# Altium footprint library EnviromentalBoard.PcbLib: 18 footprints (part 1 of 2)
Each footprint in its own frame and in the unit in brackets; x right, y up, seen from the top. Pads: shape width x height; smd on the part's side, far side on the other; paste and mask are expansions set on the pad; w line width, h text height; cw(c..) or ccw(c..) is an arc to the next point about the centre after c.
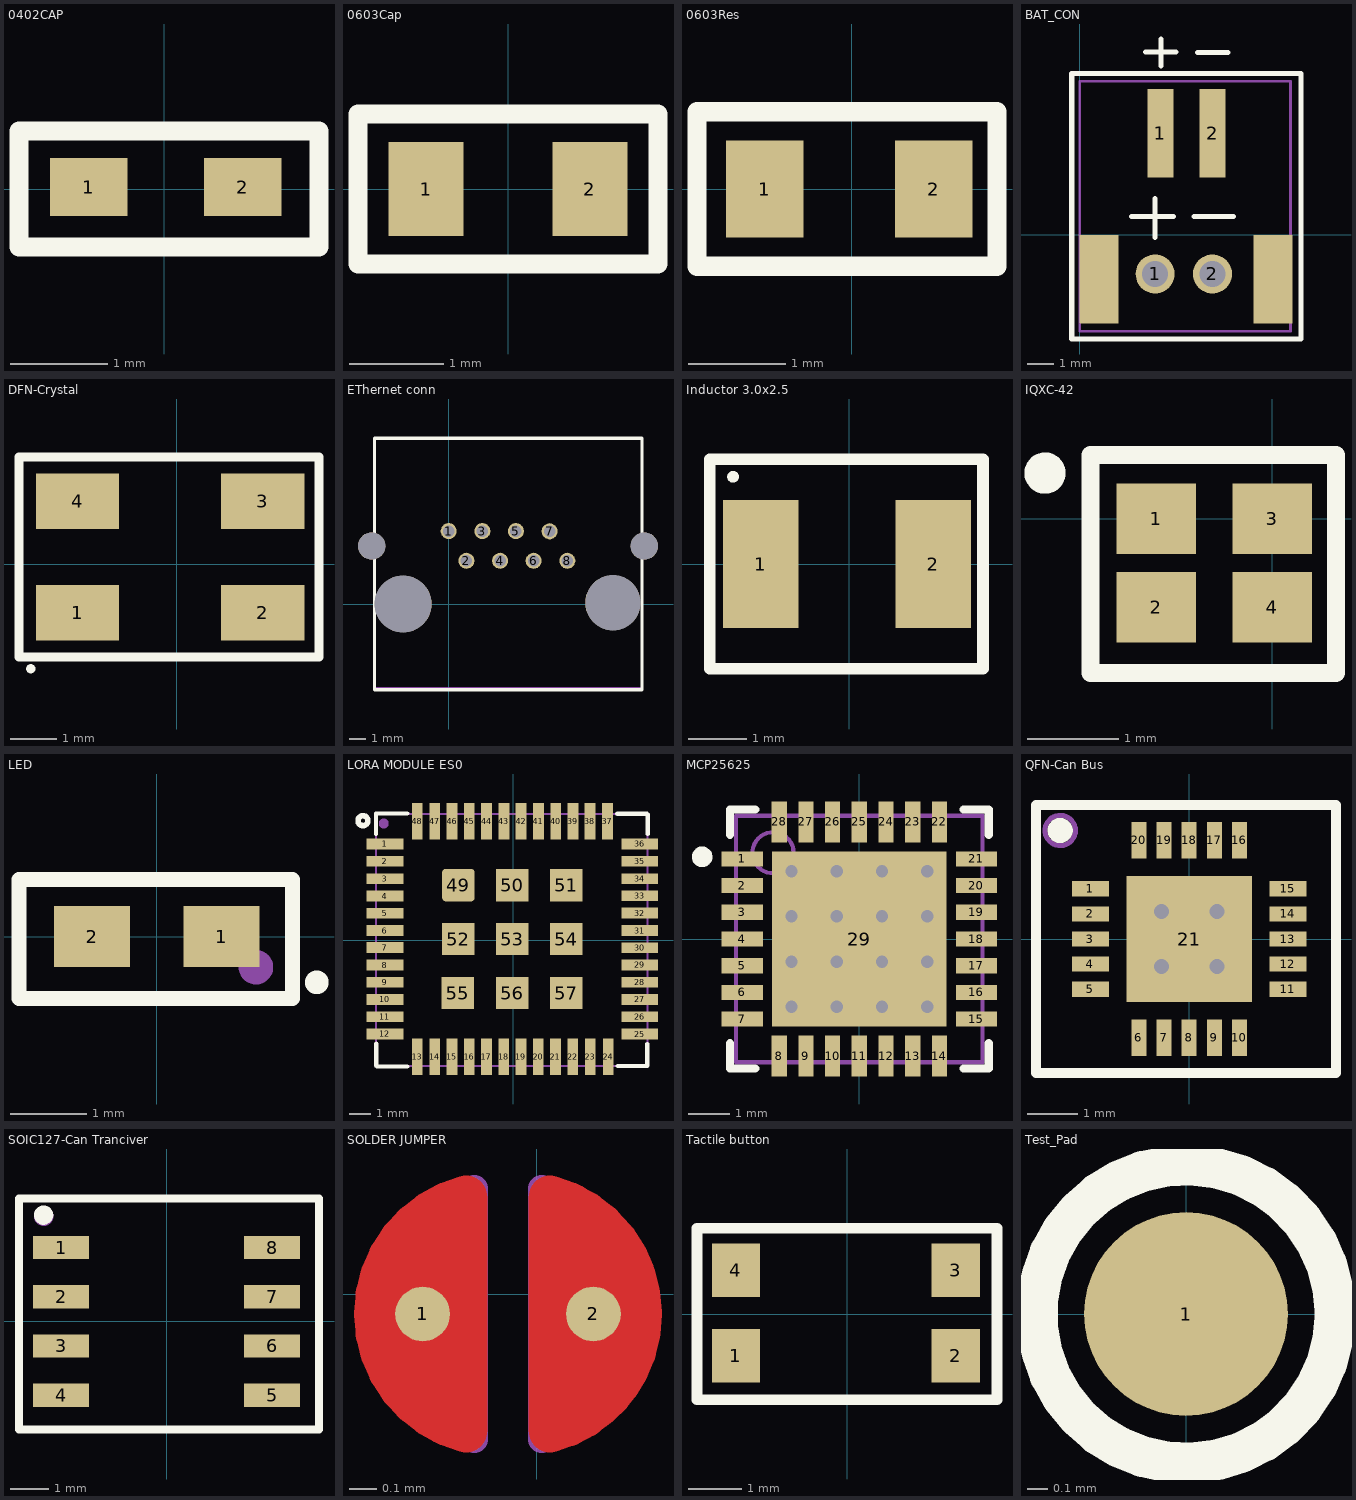
[diagram p0: the footprints below, top view; thin cyan lines are the x and y axes]

## 0402CAP [mm]
pads (2):
  rect 0.8x0.6 smd: 1(-0.78,0.02) 2(0.81,0.02)
Top Overlay:
  lines w0.2: -1.5,-0.6 -1.5,0.6 -0.63,0.6 0.668,0.6 1.6,0.6 1.6,-0.6 -1.5,-0.6
Mechanical 29:
  lines w0.1: -1.5,-0.6 -1.5,0.6 1.6,0.6 1.6,-0.6 -1.5,-0.6
  text "'.Designator'" at -1.3,-0.3 h0.5
3D body: height 1.5, standoff 0, extent -0.281,-0.286 0.319,0.314
3D body: height 1.5, standoff 0, extent 0.319,-0.286 0.569,0.314
3D body: height 1.5, standoff 0, extent -0.531,-0.286 -0.281,0.314

## 0603Cap [mm]
pads (2):
  rect 0.8x1 smd paste+0 mask+0.102: 1(-0.873,0) 2(0.873,0)
Top Overlay:
  lines w0.2: -1.6,-0.8 1.6,-0.8 1.6,0.8 -1.6,0.8 -1.6,-0.8
Mechanical 29:
  lines w0.1: -1.6,-0.8 1.6,-0.8 1.6,0.8 -1.6,0.8 -1.6,-0.8
  text "'.Designator'" at -1.2,-0.4 h1
3D body "User Library-CR1608-0603.step": height 0.45, standoff 0, extent -0.8,-0.4 0.8,0.4

## 0603Res [mm]
pads (2):
  rect 0.8x1 smd paste+0 mask+0.102: 1(-0.899,0) 2(0.848,0)
Top Overlay:
  lines w0.2: -1.6,-0.8 1.5,-0.8 1.5,0.8 -1.6,0.8 -1.6,-0.8
Mechanical 29:
  lines w0.1: -1.6,-0.8 1.5,-0.8 1.5,0.8 -1.6,0.8 -1.6,-0.8
  text "'.Designator'" at -1.3,-0.4 h1
3D body "User Library-CR1608-0603.step": height 0.45, standoff 0, extent -0.825,-0.4 0.775,0.4

## BAT_CON [mm]
pads (6):
  round 1.5 hole 1: 1(2.9,-1.5) 2(5.1,-1.5)
  rect 1x3.4 smd: 1(3.098,3.899) 2(5.108,3.901)
  rect 1.5x3.4 smd: ""(0.75,-1.7) ""(7.421,-1.711)
Top Overlay:
  lines w0.2: 2,0.7 3.6,0.7 ; 2.53,7.02 3.7,7.02 ; 2.9,-0.1 2.9,1.4 ; 3.13,6.48 3.13,7.52 ; 4.4,0.7 5.9,0.7 ; 4.54,7 5.7,7 ; -0.3,-4 -0.3,6.2 8.5,6.2 8.5,-4 -0.3,-4
Bottom Overlay:
  lines w0.2: 2.06,0.67 3.67,0.67 ; 2.9,-0.11 2.9,1.42 ; 4.4,0.7 5.88,0.7
Mechanical 29:
  lines w0.1: 0,-3.7 0,5.9 8.1,5.9 8.1,0 8.1,-3.7 0,-3.7
  text "'.Designator'" at 0.2,0.7 h1

## DFN-Crystal [mm] "DFN, 4-Leads, Body 3.20x5.00mm, Pitch 4.00mm, IPC Medium Density"
height 1.1
pads (4):
  rect 1.8x1.2 smd: 1(-2.14,-1.048) 2(1.86,-1.048) 3(1.86,1.352) 4(-2.14,1.352)
Top Overlay:
  circle w0.1: c-3.15,-2.261 r0.05
  lines w0.2: -3.404,-2.007 3.073,-2.007 3.073,2.311 -3.404,2.311 -3.404,-2.007
Mechanical 29:
  lines w0.1: -3.404,-2.007 3.073,-2.007 3.073,2.311 -3.404,2.311 -3.404,-2.007
  text "'.Designator'" at -2.083,-0.102 h1
3D body "User Library-ABM3B.STEP": height 1.1, standoff 0, extent -2.66,-1.43 2.34,1.77

## EThernet conn [mm]
pads (12):
  round 0.97 hole 0.7: 1(0,4.41) 2(1.07,2.62) 3(2.03,4.41) 4(3.1,2.62) 5(4.06,4.41) 6(5.13,2.62) 7(6.09,4.4) 8(7.16,2.62)
  round 1.65 hole 1.65 unplated: ""(-4.65,3.51) ""(11.81,3.51)
  round 3.43 hole 3.43 unplated: ""(-2.75,0.01)
  round 3.33 hole 3.33 unplated: ""(9.91,0.09)
Top Overlay:
  lines w0.2: -4.48,-5.17 11.13,-5.17 11.67,-5.17 11.67,10.01 -4.48,10.01 -4.48,-5.17
Mechanical 29:
  lines w0.1: -4.49,-5.05 -4.49,10.02 11.61,10.02 11.66,9.97 11.66,-5.05 -4.49,-5.05
  text "'.Designator'" at -1.41,-3.47 h1
3D body "446200001.stp": height 13.21, standoff -2.79, extent -4.325,-5.015 11.56,10.095

## Inductor 3.0x2.5 [mm]
pads (2):
  rect 1.3x2.2 smd: 1(-1.52,0) 2(1.44,0)
Top Overlay:
  circle w0.1: c-2,1.5 r0.05
  lines w0.2: -2.4,-1.8 2.3,-1.8 2.3,1.8 -2.4,1.8 -2.4,-1.8
Mechanical 29:
  lines w0.1: -2.4,-1.8 -2.4,1.8 2.3,1.8 2.3,-1.8 -2.4,-1.8
  text "'.Designator'" at -1.8,-1.3 h1
3D body: height 1.5, standoff 0, extent -1.35,-1.6 -0.82,1.6
3D body: height 1.5, standoff 0, extent 0.82,-1.6 1.35,1.6
3D body: height 1.5, standoff 0, extent -0.82,-1.6 0.82,1.6

## IQXC-42 [mm] "crystall"
pads (4):
  rect 0.875x0.775 smd: 1(-1.275,0) 2(-1.275,-0.975) 3(0,0) 4(0,-0.975)
Top Overlay:
  circle w0.254: c-2.5,0.5 r0.1
  lines w0.2: -2,-1.7 -2,0.7 0.7,0.7 0.7,0.5 0.7,-1.7 -2,-1.7
Mechanical 29:
  lines w0.1: 0.7,0.7 0.7,-1.7 -2,-1.7 -2,0.7 -1.6,0.7 0.4,0.7 0.7,0.7 ; 0.7,0.7 0.7,0.7
  text "'.Designator'" at -1.5,-0.8 h0.7
3D body: height 1, standoff 0, extent -1.7,-1.3 0.4,0.3

## LED [mm]
pads (2):
  rect 1x0.8 smd: 1(0.85,0) 2(-0.85,0)
Top Overlay:
  lines w0.2: -1.81,-0.81 1.78,-0.81 1.78,0.75 -1.81,0.75 -1.81,-0.81
  lines w0.254: 2.128,-0.6 cw(c2.1,-0.6) 2.128,-0.597
Mechanical 29:
  circle w0.254: c1.3,-0.4 r0.1
  lines w0.1: -1.8,-0.8 -1.8,0.74 1.76,0.74 1.78,0.72 1.78,-0.79 -1.79,-0.79 -1.8,-0.8
  text ".designator" at -1.22,-0.07 h0.7
3D body: height 1, standoff 0, extent -0.9,-0.4 0.8,0.4

## LORA MODULE ES0 [mm]
pads (57):
  rect 1.7x0.5 smd paste-5: 1(-5.94,4.45) 2(-5.94,3.65) 3(-5.94,2.84) 4(-5.94,2.04) 5(-5.94,1.24) 6(-5.94,0.44) 7(-5.94,-0.35) 8(-5.94,-1.16) 9(-5.94,-1.96) 10(-5.94,-2.75) 11(-5.94,-3.56) 12(-5.94,-4.35) 25(5.862,-4.355) 26(5.862,-3.554) 27(5.862,-2.752) 28(5.862,-1.955) 29(5.862,-1.155) 30(5.862,-0.355) 31(5.86,0.44) 32(5.86,1.25) 33(5.86,2.05) 34(5.86,2.84) 35(5.86,3.65) 36(5.86,4.45)
  rect 0.5x1.7 smd paste-5: 13(-4.44,-5.405) 14(-3.638,-5.405) 15(-2.838,-5.405) 16(-2.038,-5.405) 17(-1.238,-5.405) 18(-0.438,-5.405) 19(0.362,-5.405) 20(1.162,-5.404) 21(1.962,-5.404) 22(2.762,-5.405) 23(3.569,-5.405) 24(4.41,-5.405) 37(4.37,5.5) 38(3.56,5.5) 39(2.77,5.5) 40(1.97,5.5) 41(1.17,5.5) 42(0.37,5.5) 43(-0.43,5.5) 44(-1.23,5.5) 45(-2.03,5.5) 46(-2.83,5.5) 47(-3.63,5.5) 48(-4.44,5.5)
  rrect20% 1.5x1.5 smd: 49(-2.538,2.545)
  rect 1.5x1.5 smd: 50(-0.038,2.545) 51(2.462,2.545) 52(-2.538,0.045) 53(-0.038,0.045) 54(2.462,0.045) 55(-2.563,-2.455) 56(-0.038,-2.455) 57(2.462,-2.455)
Top Overlay:
  circle w0.254: c-6.96,5.53 r0.23
  lines w0.2: -6.36,4.91 -6.36,5.85 -6.35,5.86 -4.91,5.86 ; -6.35,-4.81 -6.35,-5.82 -6.31,-5.86 -4.91,-5.86 ; 4.83,5.85 6.2,5.85 6.23,5.82 6.23,4.91 ; 4.85,-5.84 6.2,-5.84 6.22,-5.82 6.22,-4.82
Top Paste:
  region: 4.61,4.66 4.61,5.61 4.12,5.61 4.12,4.66
  region: 3.8,4.66 3.8,5.61 3.31,5.61 3.31,4.66
  region: 3,4.66 3,5.61 2.51,5.61 2.51,4.66
  region: 2.2,4.66 2.2,5.61 1.71,5.61 1.71,4.66
  region: 1.4,4.66 1.4,5.61 0.91,5.61 0.91,4.66
  region: 0.6,4.66 0.6,5.61 0.11,5.61 0.11,4.66
  region: -0.2,4.66 -0.2,5.61 -0.69,5.61 -0.69,4.66
  region: -0.99,4.66 -0.99,5.61 -1.48,5.61 -1.48,4.66
  region: -1.79,4.66 -1.79,5.61 -2.28,5.61 -2.28,4.66
  region: -2.59,4.66 -2.59,5.61 -3.08,5.61 -3.08,4.66
  region: -3.39,4.66 -3.39,5.61 -3.88,5.61 -3.88,4.66
  region: -4.2,4.65 -4.2,5.6 -4.69,5.6 -4.69,4.65
  rectangle: 5.01,-4.61 5.97,-4.11
  rectangle: 5.01,-3.81 5.97,-3.31
  rectangle: 5.01,-3.01 5.97,-2.51
  rectangle: 5.01,-2.21 5.97,-1.71
  rectangle: 5.01,-1.41 5.97,-0.91
  rectangle: 5.01,-0.61 5.97,-0.11
  rectangle: 5.01,0.19 5.97,0.69
  rectangle: 5.01,0.99 5.97,1.49
  rectangle: 5.01,1.79 5.97,2.29
  rectangle: 5.01,2.59 5.97,3.09
  rectangle: 5.01,3.39 5.97,3.89
  rectangle: 5.01,4.19 5.97,4.69
  region: 4.65,-5.51 4.65,-4.56 4.16,-4.56 4.16,-5.51
  region: 3.81,-5.51 3.81,-4.56 3.32,-4.56 3.32,-5.51
  region: 3,-5.51 3,-4.56 2.51,-4.56 2.51,-5.51
  region: 2.2,-5.51 2.2,-4.56 1.71,-4.56 1.71,-5.51
  region: 1.4,-5.51 1.4,-4.56 0.91,-4.56 0.91,-5.51
  region: 0.6,-5.51 0.6,-4.56 0.11,-4.56 0.11,-5.51
  region: -0.2,-5.51 -0.2,-4.56 -0.69,-4.56 -0.69,-5.51
  region: -1,-5.51 -1,-4.56 -1.49,-4.56 -1.49,-5.51
  region: -1.79,-5.51 -1.79,-4.56 -2.28,-4.56 -2.28,-5.51
  region: -2.59,-5.51 -2.59,-4.56 -3.08,-4.56 -3.08,-5.51
  region: -3.4,-5.51 -3.4,-4.56 -3.89,-4.56 -3.89,-5.51
  region: -4.2,-5.51 -4.2,-4.56 -4.69,-4.56 -4.69,-5.51
  rectangle: -6.05,-4.6 -5.1,-4.11
  rectangle: -6.05,-3.8 -5.1,-3.31
  rectangle: -6.05,-3 -5.1,-2.51
  rectangle: -6.05,-2.2 -5.1,-1.71
  rectangle: -6.05,-1.4 -5.1,-0.91
  rectangle: -6.05,-0.6 -5.1,-0.11
  rectangle: -6.05,0.2 -5.1,0.69
  rectangle: -6.05,1 -5.1,1.49
  rectangle: -6.05,1.8 -5.1,2.29
  rectangle: -6.05,2.6 -5.1,3.09
  rectangle: -6.05,3.41 -5.1,3.9
  rectangle: -6.05,4.2 -5.09,4.7
Mechanical 29:
  circle w0.254: c-6,5.4 r0.1
  lines w0.1: -6.35,-5.842 6.223,-5.842 6.223,5.842 -6.35,5.842 -6.35,-5.842
  text "'.Designator'" at -4.064,0.254 h1
3D body "CMWX1ZZABZ.STEP": height 1.76, standoff 0, extent -6.33,-5.8 6.17,5.8

## MCP25625 [mm] "QFN, 28-Leads, Body 6.00x6.00mm, Pitch 0.65mm, Thermal Pad 4.25x4.25mm, IPC Medium Density"
height 0.9
pads (29):
  rect 1x0.37 smd: 1(-2.85,1.95) 2(-2.85,1.3) 3(-2.85,0.65) 4(-2.85,0) 5(-2.85,-0.65) 6(-2.85,-1.3) 7(-2.85,-1.95) 15(2.85,-1.95) 16(2.85,-1.3) 17(2.85,-0.65) 18(2.85,0) 19(2.85,0.65) 20(2.85,1.3) 21(2.85,1.95)
  rect 0.37x1 smd: 8(-1.95,-2.85) 9(-1.3,-2.85) 10(-0.65,-2.85) 11(0,-2.85) 12(0.65,-2.85) 13(1.3,-2.85) 14(1.95,-2.85) 22(1.95,2.85) 23(1.3,2.85) 24(0.65,2.85) 25(0,2.85) 26(-0.65,2.85) 27(-1.3,2.85) 28(-1.95,2.85)
  rect 4.25x4.25 smd: 29(0,0)
via 1.65,-1.65 diameter 0.5 hole 0.3
via 0.55,-1.65 diameter 0.5 hole 0.3
via -0.55,-1.65 diameter 0.5 hole 0.3
via -1.65,-1.65 diameter 0.5 hole 0.3
via 1.65,-0.55 diameter 0.5 hole 0.3
via 0.55,-0.55 diameter 0.5 hole 0.3
via -0.55,-0.55 diameter 0.5 hole 0.3
via -1.65,-0.55 diameter 0.5 hole 0.3
via 1.65,0.55 diameter 0.5 hole 0.3
via 0.55,0.55 diameter 0.5 hole 0.3
via -0.55,0.55 diameter 0.5 hole 0.3
via -1.65,0.55 diameter 0.5 hole 0.3
via 1.65,1.65 diameter 0.5 hole 0.3
via 0.55,1.65 diameter 0.5 hole 0.3
via -0.55,1.65 diameter 0.5 hole 0.3
via -1.65,1.65 diameter 0.5 hole 0.3
Top Overlay:
  lines w0.2: -3.15,-2.535 -3.15,-3.15 -2.535,-3.15 ; -3.15,2.535 -3.15,3.15 -2.535,3.15 ; 2.535,-3.15 3.15,-3.15 3.15,-2.535 ; 2.535,3.15 3.15,3.15 3.15,2.535
  lines w0.25: -3.706,2.04 ccw(c-3.825,2) -3.7,2
Mechanical 29:
  circle w0.1: c-2.1,2.1 r0.5
  lines w0.1: -3,-3 3,-3 3,3 -3,3 -3,-3
  text "'.Designator'" at -2.7,-0.9 h0.7
3D body: height 0.9, standoff 0.01, extent -3,-3 3,3

## QFN-Can Bus [mm] "QFN, 20-Leads, Body 4.00x4.00mm, Pitch 0.50mm, Thermal Pad 2.50x2.50mm, IPC Medium Density"
height 1
pads (21):
  rect 0.73x0.3 smd: 1(-1.965,1) 2(-1.965,0.5) 3(-1.965,0) 4(-1.965,-0.5) 5(-1.965,-1) 11(1.965,-1) 12(1.965,-0.5) 13(1.965,0) 14(1.965,0.5) 15(1.965,1)
  rect 0.3x0.73 smd: 6(-1,-1.965) 7(-0.5,-1.965) 8(0,-1.965) 9(0.5,-1.965) 10(1,-1.965) 16(1,1.965) 17(0.5,1.965) 18(0,1.965) 19(-0.5,1.965) 20(-1,1.965)
  rect 2.5x2.5 smd: 21(0,0)
via 0.55,-0.55 diameter 0.5 hole 0.3
via -0.55,-0.55 diameter 0.5 hole 0.3
via 0.55,0.55 diameter 0.5 hole 0.3
via -0.55,0.55 diameter 0.5 hole 0.3
Top Overlay:
  circle w0.25: c-2.565,2.159 r0.125
  lines w0.2: -3.048,-2.667 2.921,-2.667 2.921,2.667 -3.048,2.667 -3.048,-2.667
Mechanical 29:
  circle w0.1: c-2.565,2.159 r0.303
  lines w0.1: -3.048,-2.667 2.921,-2.667 2.921,2.667 -3.048,2.667 -3.048,-2.667
  text "'.Designator'" at -2.286,-0.127 h1
3D body: height 1, standoff 0.01, extent -2.075,-2.075 2.075,2.075

## SOIC127-Can Tranciver [mm] "SOIC, 8-Leads, Body 4.90x3.90mm, Pitch 1.27mm, IPC Medium Density"
height 1.75
pads (8):
  rect 1.45x0.6 smd: 1(-2.725,1.905) 2(-2.725,0.635) 3(-2.725,-0.635) 4(-2.725,-1.905) 5(2.725,-1.905) 6(2.725,-0.635) 7(2.725,0.635) 8(2.725,1.905)
Top Overlay:
  circle w0.25: c-3.175,2.743 r0.125
  lines w0.2: -3.81,-2.794 3.937,-2.794 3.937,3.175 -3.81,3.175 -3.81,-2.794
Mechanical 29:
  circle w0.1: c-3.175,2.718 r0.205
  lines w0.1: -3.81,-2.794 3.937,-2.794 3.937,3.175 1.596,3.175 -1.596,3.175 -3.81,3.175 -3.81,-2.794
  text "'.Designator'" at -3.048,-0.127 h1
3D body: height 1.75, standoff 0.25, extent -2,-2.5 2,2.5

## SOLDER JUMPER [mm]
pads (2):
  round 0.2 smd paste-10: 1(-0.417,-0.073) 2(0.207,-0.073)
Top Layer:
  region: -0.182,-0.505 -0.257,-0.578 -0.376,-0.54 -0.44,-0.497 -0.514,-0.424 -0.567,-0.365 -0.626,-0.266 -0.654,-0.172 -0.649,0.049 -0.623,0.12 -0.539,0.257 -0.456,0.338 -0.364,0.396 -0.262,0.427 -0.212,0.41 -0.182,0.357
  region: -0.028,0.359 0.047,0.432 0.166,0.394 0.23,0.351 0.304,0.278 0.357,0.219 0.416,0.12 0.444,0.026 0.439,-0.195 0.413,-0.266 0.329,-0.403 0.246,-0.484 0.154,-0.542 0.052,-0.573 0.002,-0.556 -0.028,-0.503
  lines w0.152: -0.258,-0.504 cw(c-0.147,-0.073) -0.592,-0.073 cw(c-0.147,-0.073) -0.258,0.358 ; 0.048,-0.504 ccw(c-0.063,-0.073) 0.233,-0.405 ccw(c-0.063,-0.073) 0.331,-0.28 ccw(c-0.063,-0.073) 0.048,0.358
Top Solder:
  circle w0.61: c-0.108,-0.073 r0.279
Mechanical 7:
  lines w0.1: -0.228,-0.532 cw(c-0.147,-0.073) -0.228,0.386 -0.228,-0.532 ; 0.018,-0.532 ccw(c-0.063,-0.073) 0.018,0.386 0.018,-0.532
Mechanical 29:
  text ".Designator" at -0.5,0.9 h0.38

## Tactile button [mm]
pads (4):
  rect 0.9x1 smd: 1(-2.072,-0.78) 2(2.028,-0.78) 3(2.028,0.82) 4(-2.072,0.82)
Top Overlay:
  lines w0.2: -2.8,-1.6 -2.8,1.6 2.8,1.6 2.8,-1.6 -2.8,-1.6
Mechanical 29:
  lines w0.1: -2.8,-1.6 -2.8,1.6 2.8,1.6 2.8,-1.6 -2.8,-1.6
  text "'.Designator'" at -1.4,-0.2 h1
3D body "User Library-Switch-CK-KMR2.STEP": height 2.1, standoff 0, extent -2.32,-1.49 2.28,1.51

## Test_Pad [mm]
pads (1):
  round 1 smd: 1(0,0)
Top Overlay:
  circle w0.2: c0,0 r0.731
Mechanical 29:
  circle w0.1: c0,0 r0.736
  text "'.Designator'" at -0.77,-0.09 h1